# EAGLE library part LTC4263 (library BaseApp)
Digikey No. :- __LTC4263CS#PBF-ND__
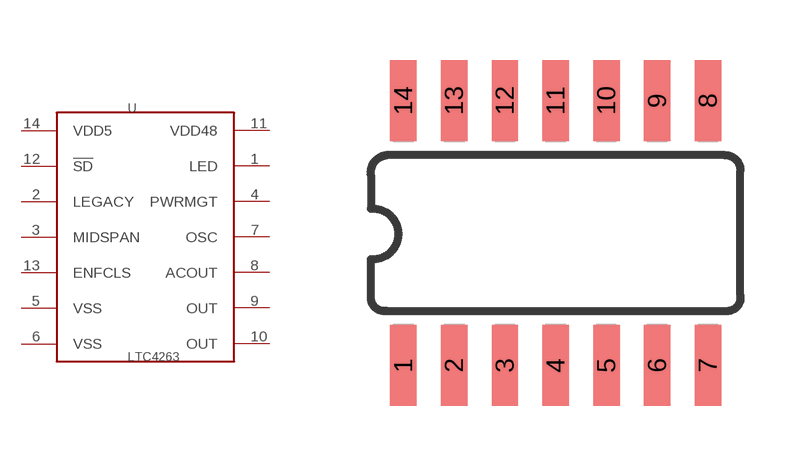
[diagram p117: symbol with the pads of SOIC-14; footprint SOIC-14]

Designator prefix -

## LTC4263  [SOIC-14]
1  LED
2  LEGACY
3  MIDSPAN
4  PWRMGT
5  VSS
6  VSS
7  OSC
8  ACOUT
9  OUT
10  OUT
11  VDD48
12  !SD
13  ENFCLS
14  VDD5

## Footprint SOIC-14 (pad centres in mm)
smd 0.66 x 2.032: 1 -3.175,-3.315; 2 -1.905,-3.315; 3 -0.635,-3.315; 4 0.635,-3.315; 5 1.905,-3.315; 6 3.175,-3.315; 7 4.445,-3.315; 8 4.445,3.315; 9 3.175,3.315; 10 1.905,3.315; 11 0.635,3.315; 12 -0.635,3.315; 13 -1.905,3.315; 14 -3.175,3.315